# Altium footprint library WS-TASV.PcbLib: 26 footprints (part 2 of 2)
Each footprint in its own frame and in the unit in brackets; x right, y up, seen from the top. Pads: shape width x height; smd on the part's side, far side on the other; paste and mask are expansions set on the pad; w line width, h text height; cw(c..) or ccw(c..) is an arc to the next point about the centre after c.
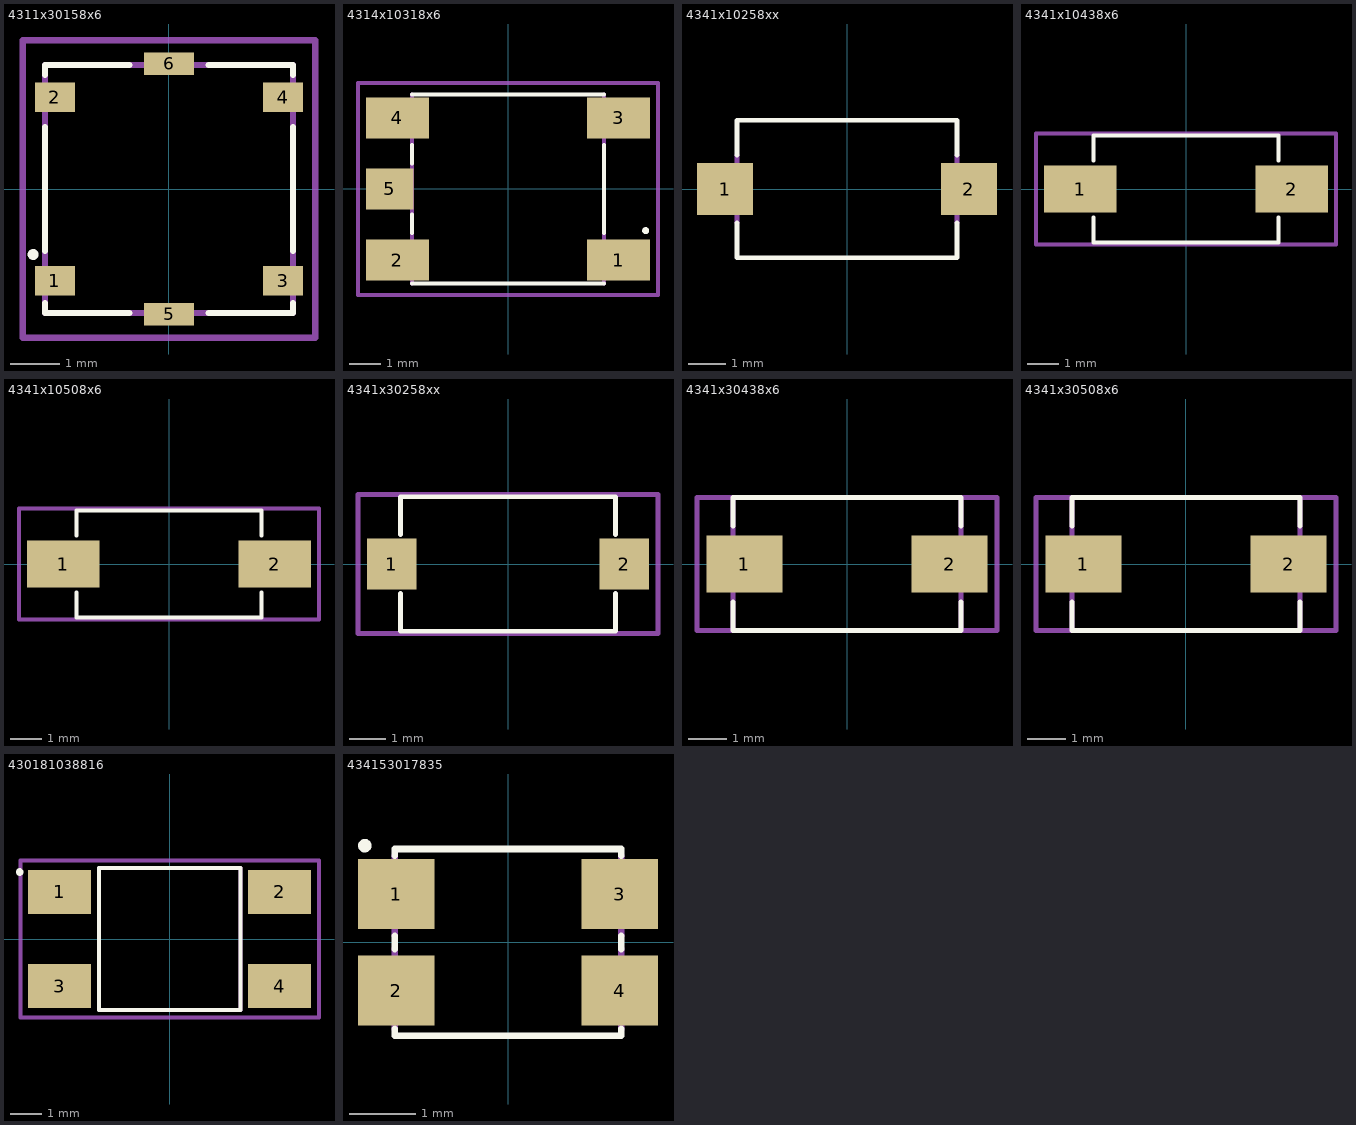
[diagram p1: the footprints below, top view; thin cyan lines are the x and y axes]

## 4311x30158x6 [mm] "5*5mm vertical type,J-Bend SMD, height 1.5mm, black actuator, 160gf, Grounded Terminal, T&R"
height 1.5
pads (6):
  rect 0.8x0.6 smd: 1(-2.3,-1.85) 2(-2.3,1.85) 3(2.3,-1.85) 4(2.3,1.85)
  rect 1x0.45 smd: 5(0,-2.525) 6(0,2.525)
Top Overlay:
  circle w0.2: c-2.74,-1.32 r0.01
  lines w0.127: -2.5,-2.5 -0.8,-2.5 ; -2.5,-2.3 -2.5,-2.3 -2.5,-2.5 ; -2.5,-1.25 -2.5,1.25 ; -2.5,2.3 -2.5,2.3 -2.5,2.5 ; -2.5,2.5 -0.8,2.5 ; 0.8,-2.5 2.5,-2.5 2.5,-2.3 ; 0.8,2.5 2.5,2.5 2.5,2.3 ; 2.5,-1.25 2.5,1.25 ; 2.5,-2.3 2.5,-2.3 ; 2.5,2.3 2.5,2.3
Mechanical 13:
  lines w0.127: -2.5,-2.5 -2.5,2.5 2.5,2.5 2.5,-2.5 -2.5,-2.5
Mechanical 15:
  lines w0.127: -2.95,-3 -2.95,3 2.95,3 2.95,-3 -2.95,-3
3D body: height 1.51, standoff 0.01, extent -2.55,-2.5 2.55,2.5

## 4314x10318x6 [mm] "6*6mm vertical type, SMD, height 3.1mm, white actuator, 260gf, Grounded Terminal, T&R"
height 3.1
pads (5):
  rect 2x1.3 smd: 1(3.5,-2.25) 2(-3.5,-2.25) 3(3.5,2.25) 4(-3.5,2.25)
  rect 1.5x1.3 smd: 5(-3.75,0)
Top Overlay:
  circle w0.2: c4.36,-1.32 r0.01
  lines w0.127: -3.036,-2.986 3.036,-2.986 ; -3.036,-1.4 -3.036,-0.8 ; -3.036,0.8 -3.036,1.4 ; -3.036,2.986 3.036,2.986 ; 3.036,-1.4 3.036,1.4
Mechanical 13:
  lines w0.127: -3.036,-2.986 -3.036,-1.4 ; -3.036,-0.8 -3.036,0.8 ; -3.036,1.4 -3.036,2.986 ; 3.036,-2.986 3.036,-1.4 ; 3.036,1.4 3.036,2.986
Mechanical 15:
  lines w0.127: -4.75,-3.35 -4.75,3.35 4.75,3.35 4.75,-3.35 -4.75,-3.35
3D body: height 3.11, standoff 0.01, extent -4,-3.1 4,3.1

## 4341x10258xx [mm] "6.0*3.8mm vertical type, SMD,  height 2.5mm, white actuator, 260gf, T&R"
height 2.5
pads (2):
  rect 1.5x1.4 smd: 1(-3.25,0) 2(3.25,0)
Top Overlay:
  lines w0.127: -2.936,-0.9 -2.936,-1.836 2.936,-1.836 2.936,-0.9 ; -2.936,0.9 -2.936,1.836 2.936,1.836 2.936,0.9
Mechanical 13:
  lines w0.127: -2.936,-0.9 -2.936,0.9 ; 2.936,-0.9 2.936,0.9
3D body: height 2.51, standoff 0.01, extent -3.65,-1.95 3.65,1.95

## 4341x10438x6 [mm] "6.0*3.5mm vertical type, SMD, height 4.3mm, white actuator, 260gf, T&R"
height 4.3
pads (2):
  rect 2.3x1.5 smd: 1(-3.35,0) 2(3.35,0)
Top Overlay:
  lines w0.127: -2.936,-0.9 -2.936,-1.686 2.936,-1.686 2.936,-0.9 ; -2.936,0.9 -2.936,1.686 2.936,1.686 2.936,0.9
Mechanical 15:
  lines w0.127: -4.75,-1.75 -4.75,1.75 4.75,1.75 4.75,-1.75 -4.75,-1.75
3D body: height 4.31, standoff 0.01, extent -4,-1.75 4,1.75

## 4341x10508x6 [mm] "6.0*3.5mm vertical type, SMD, height 5.0mm, white actuator, 260gf, T&R"
height 5
pads (2):
  rect 2.3x1.5 smd: 1(-3.35,0) 2(3.35,0)
Top Overlay:
  lines w0.127: -2.936,-0.9 -2.936,-1.686 2.936,-1.686 2.936,-0.9 ; -2.936,0.9 -2.936,1.686 2.936,1.686 2.936,0.9
Mechanical 15:
  lines w0.127: -4.75,-1.75 -4.75,1.75 4.75,1.75 4.75,-1.75 -4.75,-1.75
3D body: height 5.01, standoff 0.01, extent -4,-1.75 4,1.75

## 4341x30258xx [mm] "6.0*3.8mm vertical type, J-Bend SMD, height 2.5mm, white actuator, 260gf, T&R"
height 2.5
pads (2):
  rect 1.35x1.4 smd: 1(-3.175,0) 2(3.175,0)
Top Overlay:
  lines w0.127: -2.936,-0.8 -2.936,-1.836 2.936,-1.836 2.936,-0.8 ; -2.936,0.8 -2.936,1.836 2.936,1.836 2.936,0.8
Mechanical 15:
  lines w0.127: -4.1,-1.9 4.1,-1.9 4.1,1.9 -4.1,1.9 -4.1,-1.9
3D body: height 2.51, standoff 0.01, extent -3.5,-1.95 3.5,1.95

## 4341x30438x6 [mm] "6.0*3.5mm vertical type, J-Bend SMD, height 4.3mm, white actuator, 260gf, T&R"
height 4.3
pads (2):
  rect 2x1.5 smd: 1(-2.7,0) 2(2.7,0)
Top Overlay:
  lines w0.127: -3,-1 -3,-1.75 ; 3,1 3,1.75 ; -3,-1.75 3,-1.75 3,-1 ; -3,-1.75 -3,-1.75 ; -3,1 -3,1.75 3,1.75 ; -3,1 -3,1 ; 3,-1 3,-1 ; 3,1.75 3,1.75
Mechanical 13:
  lines w0.127: -3,-1.75 3,-1.75 3,1.75 -3,1.75 -3,-1.75
Mechanical 15:
  lines w0.127: -3.95,-1.75 3.95,-1.75 3.95,1.75 -3.95,1.75 -3.95,-1.75
3D body: height 4.31, standoff 0.01, extent -3.649,-1.75 3.65,1.75

## 4341x30508x6 [mm] "6.0*3.5mm vertical type, J-Bend SMD, height 5.0mm, white actuator, 260gf, T&R"
height 5
pads (2):
  rect 2x1.5 smd: 1(-2.7,0) 2(2.7,0)
Top Overlay:
  lines w0.127: -3,-1 -3,-1.75 ; 3,1 3,1.75 ; -3,-1.75 -3,-1.75 ; -3,-1.75 3,-1.75 3,-1 ; -3,1 -3,1 ; -3,1 -3,1.75 3,1.75 ; 3,-1 3,-1 ; 3,1.75 3,1.75
Mechanical 13:
  lines w0.127: -3,-1.75 -3,1.75 3,1.75 3,-1.75 -3,-1.75
Mechanical 15:
  lines w0.127: -3.95,-1.75 -3.95,1.75 3.95,1.75 3.95,-1.75 -3.95,-1.75
3D body: height 5, standoff 0, extent -3.599,-1.75 3.6,1.75

## 430181038816 [mm] "4.5*4.5mm vertical type, SMD, height 3.8mm, black actuator, 160gf, T&R"
height 3.8
pads (4):
  rect 2x1.4 smd: 1(-3.5,1.5) 2(3.5,1.5) 3(-3.5,-1.5) 4(3.5,-1.5)
Top Overlay:
  circle w0.2: c-4.77,2.13 r0.02
  lines w0.127: -2.25,-2.25 2.25,-2.25 2.25,2.25 -2.25,2.25 -2.25,-2.25
Mechanical 13:
  lines w0.127: -2.25,-2.25 2.25,-2.25 2.25,2.25 -2.25,2.25 -2.25,-2.25
Mechanical 15:
  lines w0.127: -4.75,-2.5 -4.75,2.5 4.75,2.5 4.75,-2.5 -4.75,-2.5
3D body: height 3.81, standoff 0.01, extent -3.75,-2.25 3.75,2.25

## 434153017835 [mm] "3.5*2.9*1.7mm J-Bend SMD"
height 1.7
pads (4):
  rect 1.15x1.05 smd: 1(-1.675,0.725) 2(-1.675,-0.725) 3(1.675,0.725) 4(1.675,-0.725)
Top Overlay:
  circle w0.1: c-2.147,1.45 r0.051
  lines w0.1: -1.7,-1.3 -1.7,-1.4 1.7,-1.4 1.7,-1.3 ; -1.7,-0.1 -1.7,0.1 ; -1.7,1.3 -1.7,1.4 1.7,1.4 1.7,1.3 ; 1.7,-0.1 1.7,0.1
Mechanical 13:
  lines w0.1: -1.7,-1.3 -1.7,-0.1 ; -1.7,0.1 -1.7,1.3 ; 1.7,-1.3 1.7,-0.1 ; 1.7,0.1 1.7,1.3
3D body: height 1.71, standoff 0.01, extent -2.147,-1.45 2.147,1.45